# EAGLE library part RZ-5-C (library remote_switch)
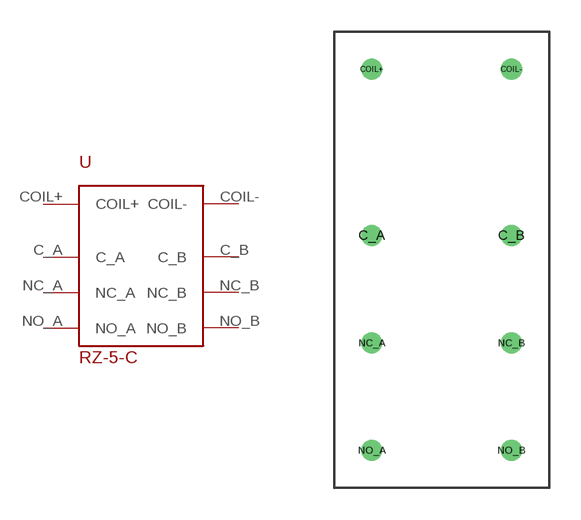
[diagram p0: symbol with the pads of RZ-5-C; footprint RZ-5-C]

Designator prefix -

## RZ-5-C  [RZ-5-C]
C_A  C_A
C_B  C_B
COIL+  COIL+
COIL-  COIL-
NC_A  NC_A
NC_B  NC_B
NO_A  NO_A
NO_B  NO_B

## Footprint RZ-5-C (pad centres in mm)
drill 0.5: C_A 1.778,11.938; C_B 8.382,11.938; COIL+ 1.778,19.812; COIL- 8.382,19.812; NC_A 1.778,6.858; NC_B 8.382,6.858; NO_A 1.778,1.778; NO_B 8.382,1.778